# Altium footprint library avr_da.PcbLib: 21 footprints (part 2 of 2)
Each footprint in its own frame and in the unit in brackets; x right, y up, seen from the top. Pads: shape width x height; smd on the part's side, far side on the other; paste and mask are expansions set on the pad; w line width, h text height; cw(c..) or ccw(c..) is an arc to the next point about the centre after c.
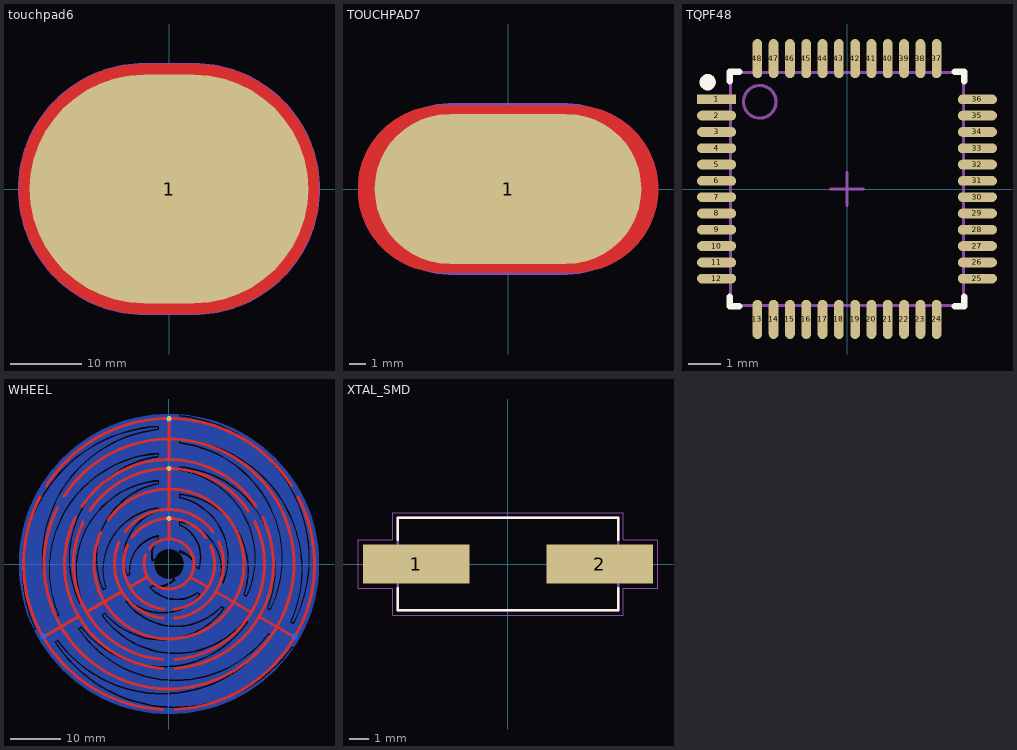
[diagram p1: the footprints below, top view; thin cyan lines are the x and y axes]

## touchpad6 [mm]
pads (1):
  oval 39x32 smd mask+0.102: 1(0,0)
Top Layer:
  pour cut-out: -3.5,-17.5 3.5,-17.5 4.125,-17.5 5.372,-17.411 6.609,-17.233 7.831,-16.967 9.03,-16.615 10.201,-16.178 11.338,-15.659 12.435,-15.06 13.487,-14.384 14.488,-13.635 15.432,-12.816 16.316,-11.932 17.135,-10.988 17.884,-9.987 18.56,-8.935 19.159,-7.838 19.678,-6.701 20.115,-5.53 20.467,-4.331 20.733,-3.109 20.911,-1.872 21,-0.625 21,0.625 20.911,1.872 20.733,3.109 20.467,4.331 20.115,5.53 19.678,6.701 19.159,7.838 18.56,8.935 17.884,9.987 17.135,10.988 16.316,11.932 15.432,12.816 14.488,13.635 13.487,14.384 12.435,15.06 11.338,15.659 10.201,16.178 9.03,16.615 7.831,16.967 6.609,17.233 5.372,17.411 4.125,17.5 3.5,17.5 -3.5,17.5 -4.125,17.5 -5.372,17.411 -6.609,17.233 -7.831,16.967 -9.03,16.615 -10.201,16.178 -11.338,15.659 -12.435,15.06 -13.487,14.384 -14.488,13.635 -15.432,12.816 -16.316,11.932 -17.135,10.988 -17.884,9.987 -18.56,8.935 -19.159,7.838 -19.678,6.701 -20.115,5.53 -20.467,4.331 -20.733,3.109 -20.911,1.872 -21,0.625 -21,-0.625 -20.911,-1.872 -20.733,-3.109 -20.467,-4.331 -20.115,-5.53 -19.678,-6.701 -19.159,-7.838 -18.56,-8.935 -17.884,-9.987 -17.135,-10.988 -16.316,-11.932 -15.432,-12.816 -14.488,-13.635 -13.487,-14.384 -12.435,-15.06 -11.338,-15.659 -10.201,-16.178 -9.03,-16.615 -7.831,-16.967 -6.609,-17.233 -5.372,-17.411 -4.125,-17.5
Bottom Layer:
  pour cut-out: -3.5,-17.5 3.5,-17.5 4.125,-17.5 5.372,-17.411 6.609,-17.233 7.831,-16.967 9.03,-16.615 10.201,-16.178 11.338,-15.659 12.435,-15.06 13.487,-14.384 14.488,-13.635 15.432,-12.816 16.316,-11.932 17.135,-10.988 17.884,-9.987 18.56,-8.935 19.159,-7.838 19.678,-6.701 20.115,-5.53 20.467,-4.331 20.733,-3.109 20.911,-1.872 21,-0.625 21,0.625 20.911,1.872 20.733,3.109 20.467,4.331 20.115,5.53 19.678,6.701 19.159,7.838 18.56,8.935 17.884,9.987 17.135,10.988 16.316,11.932 15.432,12.816 14.488,13.635 13.487,14.384 12.435,15.06 11.338,15.659 10.201,16.178 9.03,16.615 7.831,16.967 6.609,17.233 5.372,17.411 4.125,17.5 3.5,17.5 -3.5,17.5 -4.125,17.5 -5.372,17.411 -6.609,17.233 -7.831,16.967 -9.03,16.615 -10.201,16.178 -11.338,15.659 -12.435,15.06 -13.487,14.384 -14.488,13.635 -15.432,12.816 -16.316,11.932 -17.135,10.988 -17.884,9.987 -18.56,8.935 -19.159,7.838 -19.678,6.701 -20.115,5.53 -20.467,4.331 -20.733,3.109 -20.911,1.872 -21,0.625 -21,-0.625 -20.911,-1.872 -20.733,-3.109 -20.467,-4.331 -20.115,-5.53 -19.678,-6.701 -19.159,-7.838 -18.56,-8.935 -17.884,-9.987 -17.135,-10.988 -16.316,-11.932 -15.432,-12.816 -14.488,-13.635 -13.487,-14.384 -12.435,-15.06 -11.338,-15.659 -10.201,-16.178 -9.03,-16.615 -7.831,-16.967 -6.609,-17.233 -5.372,-17.411 -4.125,-17.5
Top Overlay:
  text "32x39" at -3.25,-0.675 h3
Top Courtyard:
  lines w0.3: -3.5,-17.5 cw(c-3.5,0) -3.5,17.5 3.5,17.5 cw(c3.5,0) 3.5,-17.5 -3.5,-17.5

## TOUCHPAD7 [mm]
pads (1):
  oval 16x9 smd mask+0.102: 1(0,0)
Top Layer:
  pour cut-out: -4,5 4,5 4.328,5 4.978,4.914 5.611,4.745 6.216,4.494 6.784,4.166 7.304,3.767 7.767,3.304 8.166,2.784 8.494,2.216 8.745,1.611 8.914,0.978 9,0.328 9,-0.328 8.914,-0.978 8.745,-1.611 8.494,-2.216 8.166,-2.784 7.767,-3.304 7.304,-3.767 6.784,-4.166 6.216,-4.494 5.611,-4.745 4.978,-4.914 4.328,-5 4,-5 -4,-5 -4.328,-5 -4.978,-4.914 -5.611,-4.745 -6.216,-4.494 -6.784,-4.166 -7.304,-3.767 -7.767,-3.304 -8.166,-2.784 -8.494,-2.216 -8.745,-1.611 -8.914,-0.978 -9,-0.328 -9,0.328 -8.914,0.978 -8.745,1.611 -8.494,2.216 -8.166,2.784 -7.767,3.304 -7.304,3.767 -6.784,4.166 -6.216,4.494 -5.611,4.745 -4.978,4.914 -4.328,5
Bottom Layer:
  pour cut-out: -4,5 4,5 4.328,5 4.978,4.914 5.611,4.745 6.216,4.494 6.784,4.166 7.304,3.767 7.767,3.304 8.166,2.784 8.494,2.216 8.745,1.611 8.914,0.978 9,0.328 9,-0.328 8.914,-0.978 8.745,-1.611 8.494,-2.216 8.166,-2.784 7.767,-3.304 7.304,-3.767 6.784,-4.166 6.216,-4.494 5.611,-4.745 4.978,-4.914 4.328,-5 4,-5 -4,-5 -4.328,-5 -4.978,-4.914 -5.611,-4.745 -6.216,-4.494 -6.784,-4.166 -7.304,-3.767 -7.767,-3.304 -8.166,-2.784 -8.494,-2.216 -8.745,-1.611 -8.914,-0.978 -9,-0.328 -9,0.328 -8.914,0.978 -8.745,1.611 -8.494,2.216 -8.166,2.784 -7.767,3.304 -7.304,3.767 -6.784,4.166 -6.216,4.494 -5.611,4.745 -4.978,4.914 -4.328,5
Top Overlay:
  circle w0.254: c0,0 r0.2
Top Courtyard:
  lines w0.3: -3.5,-5 cw(c-3.5,0) -3.5,5 3.5,5 cw(c3.5,0) 3.5,-5 -3.5,-5

## TQPF48 [mm] "QFN, 48-Leads, Body 7x7mm, Pitch 0.5mm, IPC Low Density"
height 0.9
pads (48):
  rect 1.2x0.3 smd mask+0.05: 1(-4,2.75)
  oval 1.2x0.3 smd mask+0.05: 2(-4,2.25) 3(-4,1.75) 4(-4,1.25) 5(-4,0.75) 6(-4,0.25) 7(-4,-0.25) 8(-4,-0.75) 9(-4,-1.25) 10(-4,-1.75) 11(-4,-2.25) 12(-4,-2.75) 25(4,-2.75) 26(4,-2.25) 27(4,-1.75) 28(4,-1.25) 29(4,-0.75) 30(4,-0.25) 31(4,0.25) 32(4,0.75) 33(4,1.25) 34(4,1.75) 35(4,2.25) 36(4,2.75)
  oval 0.3x1.2 smd mask+0.05: 13(-2.75,-4) 14(-2.25,-4) 15(-1.75,-4) 16(-1.25,-4) 17(-0.75,-4) 18(-0.25,-4) 19(0.25,-4) 20(0.75,-4) 21(1.25,-4) 22(1.75,-4) 23(2.25,-4) 24(2.75,-4) 37(2.75,4) 38(2.25,4) 39(1.75,4) 40(1.25,4) 41(0.75,4) 42(0.25,4) 43(-0.25,4) 44(-0.75,4) 45(-1.25,4) 46(-1.75,4) 47(-2.25,4) 48(-2.75,4)
Top Overlay:
  circle w0.25: c-4.275,3.275 r0.125
  lines w0.2: -3.6,-3.3 -3.6,-3.6 -3.3,-3.6 ; -3.6,3.3 -3.6,3.6 -3.3,3.6 ; 3.3,-3.6 3.6,-3.6 3.6,-3.3 ; 3.3,3.6 3.6,3.6 3.6,3.3
Mechanical 13:
  circle w0.1: c-2.675,2.675 r0.5
  lines w0.1: -3.575,-3.575 3.575,-3.575 3.575,3.575 -3.575,3.575 -3.575,-3.575
Mechanical 15:
  lines w0.1: -0.5,0 0.5,0 ; 0,-0.5 0,0.5
3D body: height 0.9, standoff 0, extent -3.575,-3.575 3.575,3.575

## WHEEL [mm]
pads (6):
  round 1 smd far side paste-0.5 mask+0.102: 1(25.115,-14.5) 2(0,29) 3(-25.115,-14.5)
  round 1 smd paste-0.5 mask+0.102: 4(0,29.1) 5(0,19.1) 6(0,9.1)
Top Layer:
  lines w0.5: -0.1,9.15 0.05,9.15
  lines w0.6: -25.812,13.437 ccw(c0,0) -1.269,-29.072 ; -25.162,-14.616 -18.061,-10.516 ; -24.543,15.635 cw(c0,0) 24.543,15.635 ; -22.275,11.35 ccw(c0,0) -20.967,13.616 ; -20.577,20.577 cw(c0,0) 20.577,20.577 ; -18.704,9.326 ccw(c0,0) -1.276,-20.861 ; -17.428,11.535 cw(c0,0) 17.428,11.535 ; -17.167,8.373 ccw(c0,0) -1.166,-19.064 ; -16.502,-9.616 -9.401,-5.516 ; -15.835,10.681 cw(c0,0) 15.927,10.542 ; -13.595,6.339 ccw(c0,0) -12.135,8.817 ; -9.958,4.433 ccw(c0,0) -1.139,-10.84 ; -8.818,6.407 cw(c0,0) 8.818,6.407 ; -8.313,3.701 ccw(c0,0) -0.951,-9.05 ; -7.842,-4.616 -4.291,-2.566 ; -7.362,5.349 cw(c0,0) 7.362,5.349 ; -4.648,1.844 ccw(c0,0) -3.926,3.096 ; 0,5 0,9.1 ; 0,10.9 0,19.1 ; 0,20.9 0,29.1 ; 0.951,-9.05 ccw(c0,0) 8.313,3.701 ; 1.139,-10.84 ccw(c0,0) 9.958,4.433 ; 1.166,-19.064 ccw(c0,0) 17.093,8.522 ; 1.269,-29.072 ccw(c0,0) 25.812,13.437 ; 1.276,-20.861 ccw(c0,0) 18.704,9.326 ; 4.264,-2.619 7.815,-4.669 ; 9.374,-5.569 16.475,-9.669 ; 18.034,-10.569 25.135,-14.669
Bottom Layer:
  drawing of 3 lines, arcs and shapes, not listed

## XTAL_SMD [mm]
pads (2):
  rect 5.5x2 smd: 1(-4.75,0) 2(4.75,0)
Top Overlay:
  lines w0.127: -5.7,-1.254 -5.7,-2.4 5.7,-2.4 5.7,-1.254 ; -5.7,1.254 -5.7,2.4 5.7,2.4 5.7,1.254
Mechanical 13:
  lines w0.127: -5.7,-2.4 -5.7,2.4 5.7,2.4 5.7,-2.4 -5.7,-2.4
Mechanical 15:
  lines w0.05: -7.75,-1.25 -5.95,-1.25 -5.95,-2.65 5.95,-2.65 5.95,-1.25 7.75,-1.25 7.75,1.25 5.95,1.25 5.95,2.65 -5.95,2.65 -5.95,1.25 -7.75,1.25 -7.75,-1.25
3D body "ECS-180-S-5P-DN-TR.STEP": height 4.3, standoff 0, extent -6.6,-2.39 6.6,2.41